# EAGLE library part AT45DB8081E (library memories)
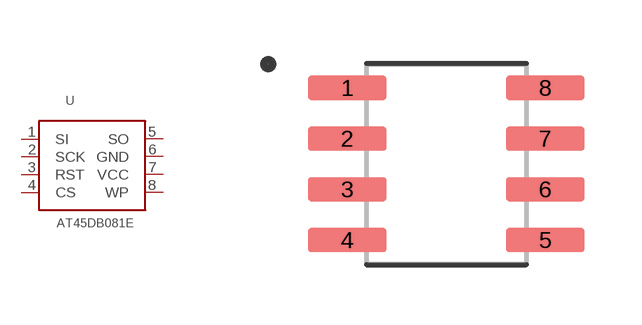
[diagram p0: symbol with the pads of SOIC127P600X175-8N; footprint SOIC127P600X175-8N]

Designator prefix -

## AT45DB8081E  [SOIC127P600X175-8N]
1  SI
2  SCK
3  RST
4  CS
5  SO
6  GND
7  VCC
8  WP

## Footprint SOIC127P600X175-8N (pad centres in mm)
smd 1.97 x 0.6: 1 -2.475,1.905; 2 -2.475,0.635; 3 -2.475,-0.635; 4 -2.475,-1.905; 5 2.475,-1.905; 6 2.475,-0.635; 7 2.475,0.635; 8 2.475,1.905